# Altium footprint library TL3301DF160QJ.PcbLib: 1 footprints
Each footprint in its own frame and in the unit in brackets; x right, y up, seen from the top. Pads: shape width x height; smd on the part's side, far side on the other; paste and mask are expansions set on the pad; w line width, h text height; cw(c..) or ccw(c..) is an arc to the next point about the centre after c.
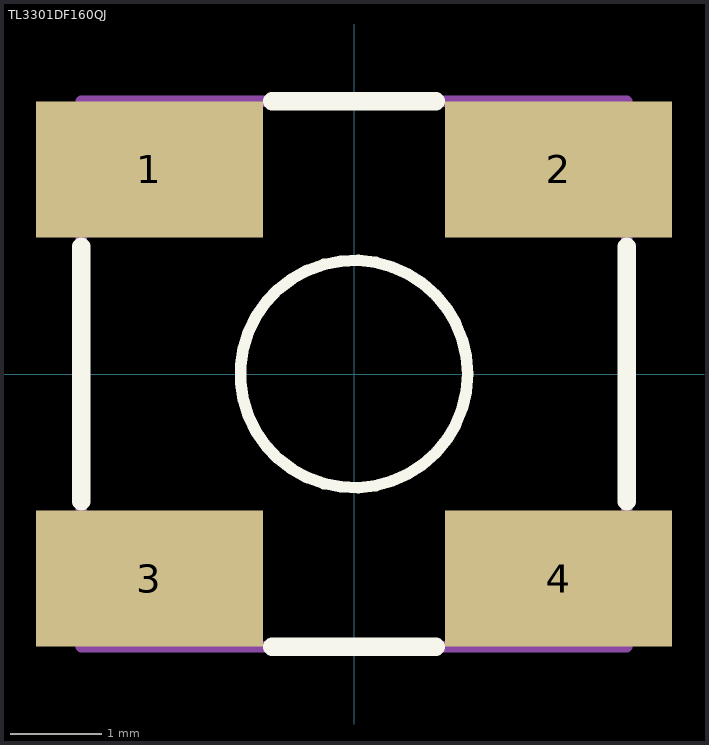
[diagram p0: the footprint, top view; thin cyan lines are the x and y axes]

## TL3301DF160QJ [mm]
pads (4):
  rect 2.5x1.5 smd: 1(-2.25,2.25) 2(2.25,2.25) 3(-2.25,-2.25) 4(2.25,-2.25)
Top Overlay:
  circle w0.127: c0,0 r1.25
  lines w0.2: -3,-1.4 -3,1.4 ; -0.9,-3 0.9,-3 ; -0.9,3 0.9,3 ; 3,-1.4 3,1.4
Mechanical 13:
  lines w0.127: -3,-3 3,-3 3,3 -3,3 -3,-3
3D body "TL3301DFxxxxJ.stp": height 13.31, standoff 0.01, extent -3.301,-3 3.301,3